# Altium schematic symbol library SCH - CONNECTOR - Staeubli 66.9040-21.SCHLIB: 1 symbol
Pins are listed as number, name and electrical type; pins without a type are passive.

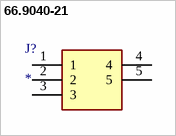
[diagram p0: symbol 66.9040-21]

## 66.9040-21
designator J?
Connector
pins: 1, 2, 3, 4, 5